# Altium footprint library FBB.PcbLib: 1 footprints
Each footprint in its own frame and in the unit in brackets; x right, y up, seen from the top. Pads: shape width x height; smd on the part's side, far side on the other; paste and mask are expansions set on the pad; w line width, h text height; cw(c..) or ccw(c..) is an arc to the next point about the centre after c.
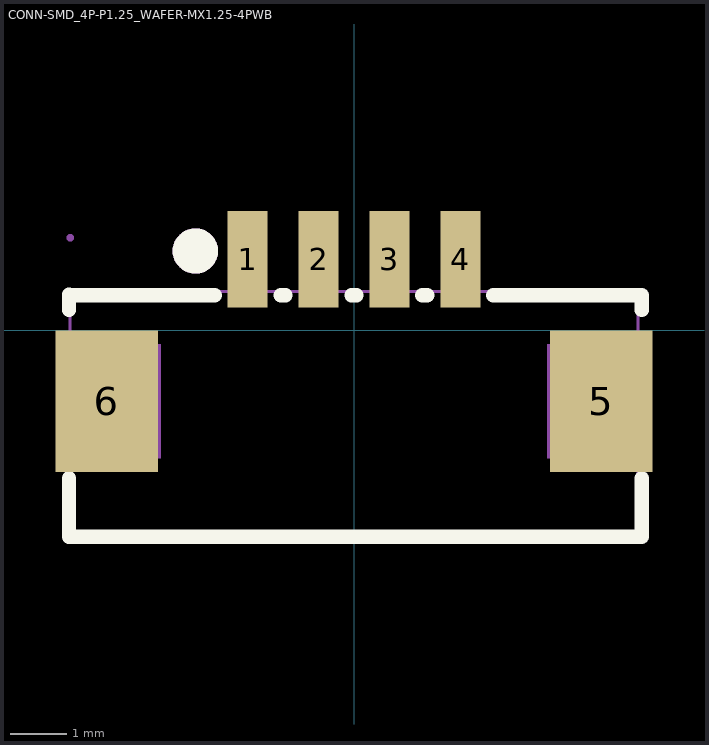
[diagram p0: the footprint, top view; thin cyan lines are the x and y axes]

## CONN-SMD_4P-P1.25_WAFER-MX1.25-4PWB [mm]
pads (6):
  rect 0.7x1.7 smd paste+0 mask+0.05: 1(-1.875,1.25) 2(-0.625,1.25) 3(0.625,1.25) 4(1.875,1.25)
  rect 1.8x2.5 smd paste+0 mask+0.05: 5(4.355,-1.25) 6(-4.355,-1.25)
Top Overlay:
  circle w0.4: c-2.794,1.397 r0.2
  lines w0.254: -5.02,-2.604 -5.02,-3.64 5.07,-3.64 5.07,-2.604 ; -5.02,0.358 -5.02,0.63 ; -4.99,0.62 -2.456,0.62 ; -1.294,0.62 -1.206,0.62 ; -0.044,0.62 0.044,0.62 ; 1.206,0.62 1.294,0.62 ; 2.456,0.62 5.07,0.62 5.07,0.358
Mechanical 6:
  circle w0.4: c-2.794,1.397 r0.2
Mechanical 15:
  region: -4.94,1.63 -4.94,1.606 -4.975,1.57 -5.025,1.57 -5.06,1.606 -5.06,1.63 -5.06,1.655 -5.025,1.69 -4.975,1.69 -4.94,1.655 -4.94,1.63
  region: 3.4,-0.25 5,-0.25 5,-2.25 3.4,-2.25
  region: -5,-0.25 -3.4,-0.25 -3.4,-2.25 -5,-2.25
  region: 1.725,1.63 2.025,1.63 2.025,0.63 1.725,0.63
  region: 0.475,1.63 0.775,1.63 0.775,0.63 0.475,0.63
  region: -0.775,1.63 -0.475,1.63 -0.475,0.63 -0.775,0.63
  region: -2.025,1.63 -1.725,1.63 -1.725,0.63 -2.025,0.63
  lines w0.051: -5,-3.62 -5,0.68 5,0.68 5,-3.62 -5,-3.62